# Altium footprint library KeyBoxPCBLIB.PcbLib: 28 footprints (part 1 of 2)
Each footprint in its own frame and in the unit in brackets; x right, y up, seen from the top. Pads: shape width x height; smd on the part's side, far side on the other; paste and mask are expansions set on the pad; w line width, h text height; cw(c..) or ccw(c..) is an arc to the next point about the centre after c.
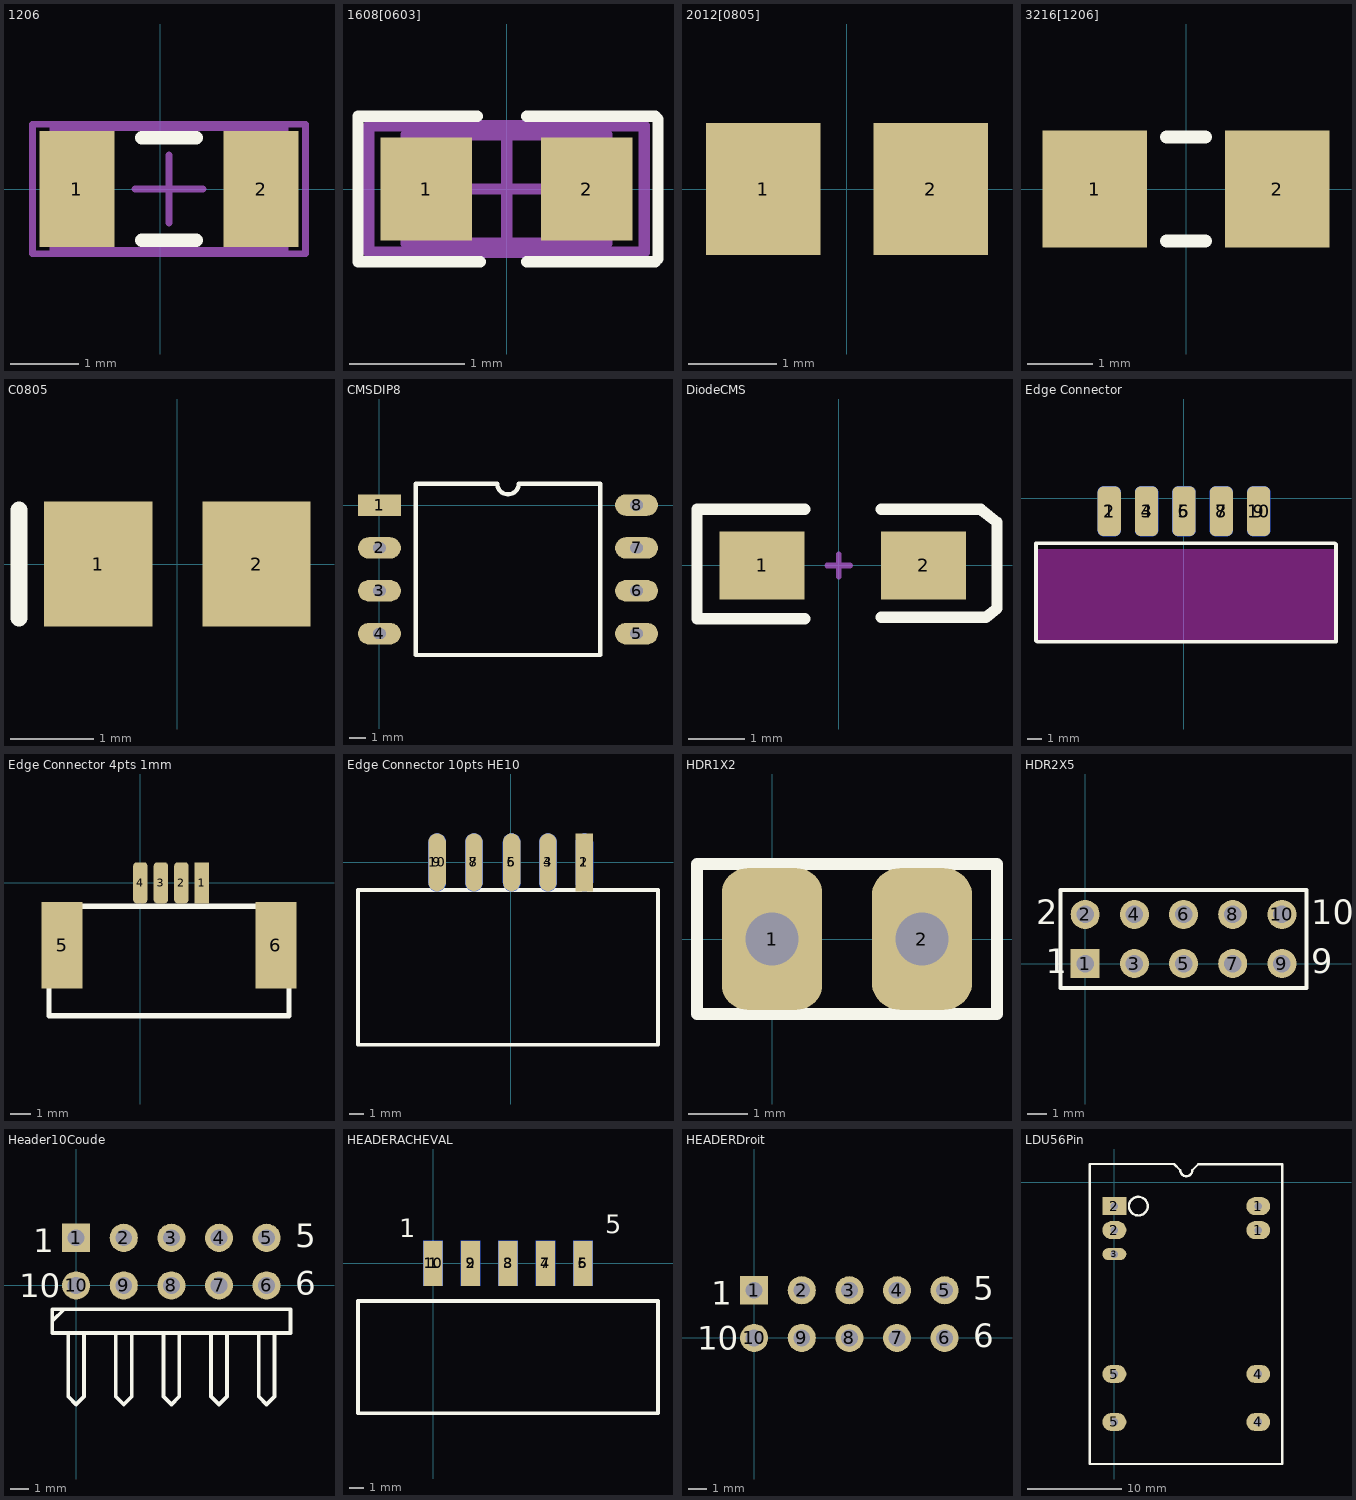
[diagram p0: the footprints below, top view; thin cyan lines are the x and y axes]

## 1206 [mm]
pads (2):
  rect 1.1x1.7 smd: 1(-1.223,0) 2(1.477,0)
Top Overlay:
  lines w0.2: -0.273,-0.75 0.527,-0.75 ; -0.273,0.75 0.527,0.75
Mechanical 13:
  lines w0.1: -1.573,-0.9 1.827,-0.9 1.827,0.9 -1.573,0.9 -1.573,-0.9
Mechanical 15:
  lines w0.1: -0.373,0 0.627,0 ; 0.127,-0.5 0.127,0.5 ; -1.873,-0.95 2.127,-0.95 2.127,0.95 -1.873,0.95 -1.873,-0.95
3D body: height 1.3, standoff 0, extent -1.573,-0.9 1.827,0.9

## 1608[0603] [mm] "Chip Capacitor, Body 1.6x0.8mm, IPC High Density"
height 1.3
pads (2):
  rect 0.8x0.9 smd: 1(-0.7,0) 2(0.7,0)
Top Overlay:
  lines w0.1: -0.254,0.635 -1.295,0.635 -1.295,-0.635 -0.229,-0.635 ; 0.178,-0.635 1.295,-0.635 ; 0.178,0.635 1.295,0.635 1.321,0.61 1.321,-0.61
Mechanical 13:
  lines w0.1: -0.875,-0.475 0.875,-0.475 0.875,0.475 -0.875,0.475 -0.875,-0.475
Mechanical 15:
  lines w0.1: -0.475,0 0.475,0 ; 0,-0.475 0,0.475 ; -1.2,-0.55 1.2,-0.55 1.2,0.55 -1.2,0.55 -1.2,-0.55
3D body: height 1.3, standoff 0, extent -0.875,-0.475 0.875,0.475

## 2012[0805] [mm] "Chip Resistor; Body 2.0 x 1.3 mm (LxW typ)"
height 2.54
pads (2):
  rect 1.3x1.5 smd: 1(-0.95,0) 2(0.95,0)

## 3216[1206] [mm] "Chip Resistor; Body 3.2 x 1.6 mm (LxW typ)"
height 2.54
pads (2):
  rect 1.6x1.8 smd: 1(-1.4,0) 2(1.4,0)
Top Overlay:
  lines w0.2: -0.3,-0.8 0.3,-0.8 ; -0.3,0.8 0.3,0.8

## C0805 [mm] "Chip Capacitor; Body 2.0 x 1.2 mm (LxW typ)"
height 1.1
pads (2):
  rect 1.3x1.5 smd: 1(-0.95,0) 2(0.95,0)
Top Overlay:
  lines w0.2: -1.9,-0.65 -1.9,0.65

## CMSDIP8 [mm]
pads (8):
  rect 2.54x1.27 smd: 1(0,0)
  oval 2.54x1.27 hole 0.635 slot 0.762 at 0 deg: 2(0,-2.54) 3(0,-5.08) 4(0,-7.62) 5(15.24,-7.62) 6(15.24,-5.08) 7(15.24,-2.54) 8(15.24,0)
Top Overlay:
  lines w0.254: 2.159,-8.89 2.159,1.27 6.985,1.27 ccw(c7.62,1.27) 8.255,1.27 13.081,1.27 13.081,-8.89 2.159,-8.89

## DiodeCMS [mm] "SM LED; 2 C-Bend Leads; Body 3.5 x 2.8 x 1.9 mm, inc leads (LxWxH typ)"
height 1.9
pads (2):
  rect 1.5x1.2 smd: 1(-1.348,0) 2(1.5,0)
Top Overlay:
  lines w0.2: -0.598,-0.94 -2.498,-0.94 -2.498,0.991 -0.598,0.991 ; 0.75,-0.914 2.597,-0.914 2.794,-0.757 2.794,0.762 2.508,0.991 0.75,0.991
Mechanical 1:
  lines w0.1: -0.2,0 0.2,0 ; 0,-0.2 0,0.2

## Edge Connector [mm] "HE10 en latéral"
pads (10):
  rrect50% 1.57x3.38 smd far side: 1(-5.08,-0.889) 3(-2.54,-0.889) 5(0,-0.889) 7(2.54,-0.889) 9(5.08,-0.889)
  rrect50% 1.57x3.38 smd: 2(-5.08,-0.889) 4(-2.54,-0.889) 6(0,-0.889) 8(2.54,-0.889) 10(5.08,-0.889)
Top Overlay:
  lines w0.254: -10.058,-9.677 -9.982,-9.754 10.338,-9.754 10.338,-3.15 10.262,-3.073 -10.058,-3.073 -10.058,-9.677
Keep-Out Layer:
  rectangle: -9.982,-9.754 10.338,-3.454

## Edge Connector 4pts 1mm [mm]
pads (6):
  rect 0.7x2 smd: 1(3,0)
  rrect50% 0.7x2 smd: 2(2,0) 3(1,0) 4(0,0)
  rect 2x4.2 smd: 5(-3.81,-3.048) 6(6.604,-3.048)
Top Overlay:
  lines w0.254: -4.445,-6.477 7.239,-6.477 7.239,-1.143 -4.445,-1.143 -4.445,-6.477

## Edge Connector 10pts HE10 [mm]
pads (10):
  rect 1.2x4 smd: 1(5.079,0)
  oval 1.2x4 smd far side: 2(5.079,0) 4(2.571,0) 6(0.063,0) 8(-2.54,0) 10(-5.08,0)
  oval 1.2x4 smd: 3(2.571,0) 5(0.063,0) 7(-2.54,0) 9(-5.08,0)
Top Overlay:
  lines w0.254: -10.541,-12.573 10.16,-12.573 10.16,-1.905 -7.366,-1.905 -10.541,-1.905 -10.541,-12.573

## HDR1X2 [mm] "Connector; Header; 2 Position"
pads (2):
  rrect50% 1.7x2.4 hole 0.9: 1(0,0)
  rrect55% 1.7x2.4 hole 0.9: 2(2.54,0)
Top Overlay:
  lines w0.2: -1.27,-1.27 3.81,-1.27 3.81,1.27 -1.27,1.27 -1.27,-1.27

## HDR2X5 [mm] "Connector; Header; 5x2 Position"
pads (10):
  rect 1.5x1.5 hole 0.9: 1(0,0)
  round 1.5 hole 0.9: 2(0,2.54) 3(2.54,0) 4(2.54,2.54) 5(5.08,0) 6(5.08,2.54) 7(7.62,0) 8(7.62,2.54) 9(10.16,0) 10(10.16,2.54)
Top Overlay:
  lines w0.2: -1.27,-1.27 11.43,-1.27 11.43,3.81 -1.27,3.81 -1.27,-1.27
  text "10" at 11.684,2.032 h1.27
  text "9" at 11.684,-0.508 h1.27
  text "1" at -2.032,-0.508 h1.27
  text "2" at -2.54,2.032 h1.27

## Header10Coude [mm]
pads (10):
  rect 1.5x1.5 hole 0.9: 1(0,2.54)
  round 1.5 hole 0.9: 2(2.54,2.54) 3(5.08,2.54) 4(7.62,2.54) 5(10.16,2.54) 6(10.16,0) 7(7.62,0) 8(5.08,0) 9(2.54,0) 10(0,0)
Top Overlay:
  lines w0.2: -1.27,-1.905 -0.635,-1.27 ; -0.423,-2.54 -0.423,-5.927 0,-6.35 0.423,-5.927 0.423,-2.54 ; 2.117,-2.54 2.117,-5.927 2.54,-6.35 2.963,-5.927 2.963,-2.54 ; 4.657,-2.54 4.657,-5.927 5.08,-6.35 5.503,-5.927 5.503,-2.54 ; 7.197,-2.54 7.197,-5.927 7.62,-6.35 8.043,-5.927 8.043,-2.54 ; 9.737,-2.54 9.737,-5.927 10.16,-6.35 10.583,-5.927 10.583,-2.54 ; -1.27,-2.54 -1.27,-1.27 11.43,-1.27 11.43,-2.54 -1.27,-2.54
  text "5" at 11.684,2.032 h1.27
  text "6" at 11.684,-0.508 h1.27
  text "1" at -2.286,1.778 h1.27
  text "10" at -3.048,-0.635 h1.27
3D body: height 5.36, standoff -2.41, extent -2.429,-7.239 12.741,3.505

## HEADERACHEVAL [mm]
pads (10):
  rect 1.3x3.048 smd: 1(0,0) 2(2.54,0) 3(5.08,0) 4(7.62,0) 5(10.16,0)
  rect 1.3x3.048 smd far side: 6(10.16,0) 7(7.62,0) 8(5.08,0) 9(2.54,0) 10(0,0)
Top Overlay:
  lines w0.254: -5.08,-10.16 15.24,-10.16 15.24,-2.54 -5.08,-2.54 -5.08,-10.16
  text "5" at 11.684,2.032 h1.27
  text "1" at -2.286,1.778 h1.27
3D body: height 2.08, standoff -2.52, extent -2.454,-8.103 12.716,0.637

## HEADERDroit [mm]
pads (10):
  rect 1.5x1.5 hole 0.9: 1(0,2.54)
  round 1.5 hole 0.9: 2(2.54,2.54) 3(5.08,2.54) 4(7.62,2.54) 5(10.16,2.54) 6(10.16,0) 7(7.62,0) 8(5.08,0) 9(2.54,0) 10(0,0)
Top Overlay:
  text "10" at -3.048,-0.635 h1.27
  text "1" at -2.286,1.778 h1.27
  text "6" at 11.684,-0.508 h1.27
  text "5" at 11.684,2.032 h1.27
3D body: height 6.44, standoff -2.3, extent -2.413,-1.157 12.757,3.443

## LDU56Pin [mm]
pads (9):
  oval 2.54x1.905 hole 0.8: 1(15.24,-5.08) 1(15.24,-2.54) 2(0,-5.08) 4(15.24,-25.4) 4(15.24,-20.32) 5(0,-25.4) 5(0,-20.32)
  rect 2.54x1.905 hole 0.8: 2(0,-2.54)
  oval 2.54x1.27 hole 0.8: 3(0,-7.62)
Top Overlay:
  circle w0.254: c2.54,-2.54 r0.992
  lines w0.254: -2.625,-29.85 -2.625,1.925 6.33,1.925 6.985,1.27 ccw(c7.62,1.27) 8.255,1.27 8.885,1.9 17.8,1.9 17.8,-29.85 -2.625,-29.85
3D body: height 12.45, standoff -5.27, extent -2.585,-29.85 17.735,1.9